# Altium footprint library RESC3263X80N.PcbLib: 1 footprints
Each footprint in its own frame and in the unit in brackets; x right, y up, seen from the top. Pads: shape width x height; smd on the part's side, far side on the other; paste and mask are expansions set on the pad; w line width, h text height; cw(c..) or ccw(c..) is an arc to the next point about the centre after c.
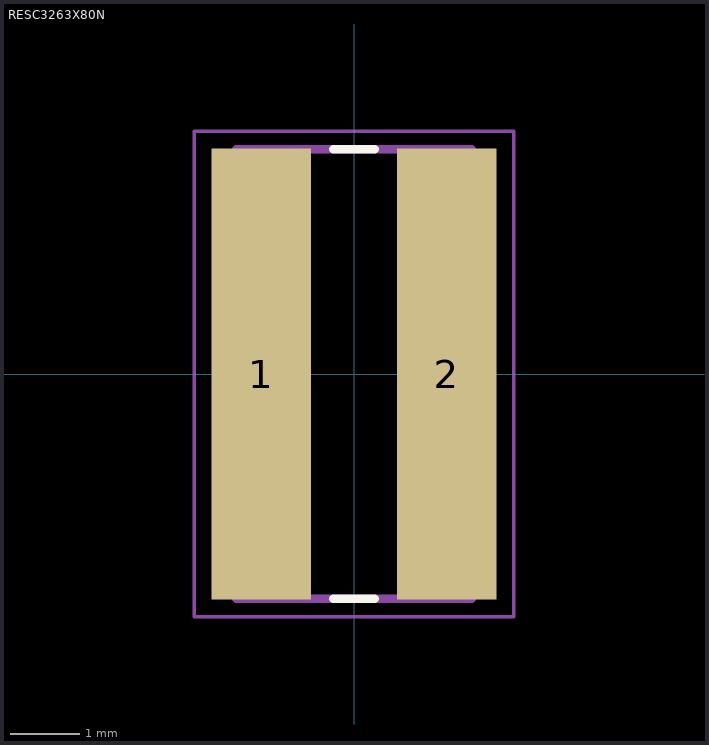
[diagram p0: the footprint, top view; thin cyan lines are the x and y axes]

## RESC3263X80N [mm]
pads (2):
  rect 1.44x6.52 smd: 1(-1.34,0) 2(1.34,0)
Top Overlay:
  lines w0.127: -0.3,-3.25 0.3,-3.25 ; -0.3,3.25 0.3,3.25
Mechanical 13:
  lines w0.127: -1.7,-3.25 1.7,-3.25 1.7,3.25 -1.7,3.25 -1.7,-3.25
Mechanical 15:
  lines w0.05: -2.308,-3.508 2.308,-3.508 2.308,3.508 -2.308,3.508 -2.308,-3.508